# EAGLE library part 48025-1190 (library Connector_2x16)
Modular Connectors / Ethernet Connectors R/A 8/8 RJ45 MAGNETIC W/GY LED Datasheet <https://www.molex.com/pdm_docs/sd/480251190_sd.pdf>
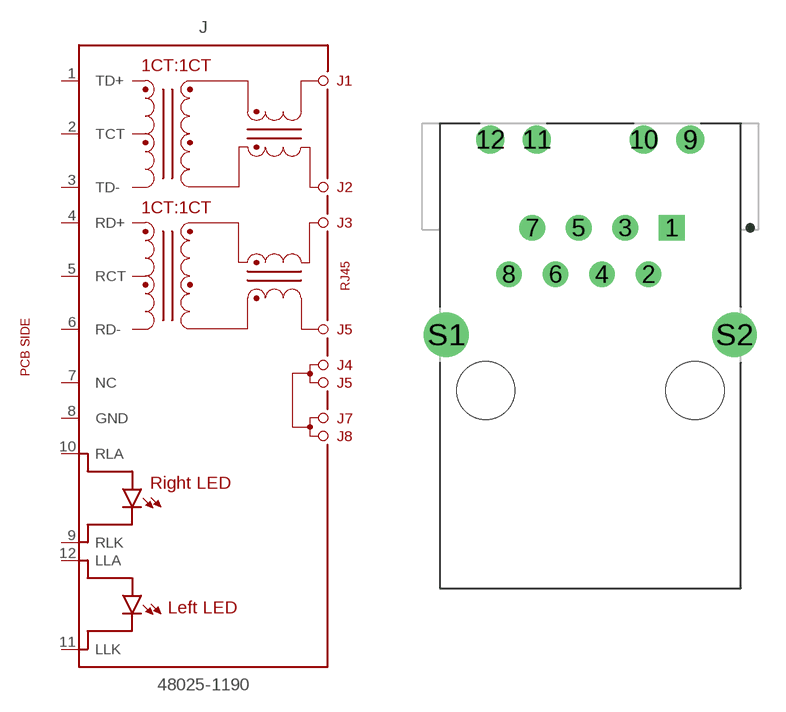
[diagram p16: symbol with the pads of 48025-1190; footprint 48025-1190]

Designator prefix J

## 48025-1190 (CATEGORY: Connector; DESCRIPTION: 1 Port RJ45 Magjack Connector Through Hole 10/100 Base-T, AutoMDIX; MANUFACTURER: Molex; MPN: 48025-1190; OPERATING_TEMP: -40°C to 70°C; PART_STATUS: Active; ROHS_COMPLIANT: RoHS Compliant; SERIES: 48025; SUB-CATEGORY: Modular Connectors - Jacks With Magnetics; TYPE: RJ45)  [48025-1190]
1  TD+  in
2  TCT  in
3  TD-  in
4  RD+  in
5  RCT  in
6  RD-  in
7  NC  nc
8  GND  pwr
9  RLK  pas
10  RLA  pas
11  LLK  pas
12  LLA  pas

## Footprint 48025-1190 (pad centres in mm)
drill 0.89 square: 1 0,0
drill 0.89: 2 -1.27,-2.54; 3 -2.54,0; 4 -3.81,-2.54; 5 -5.08,0; 6 -6.35,-2.54; 7 -7.62,0; 8 -8.89,-2.54
drill 1.02: 9 1.02,4.83; 10 -1.52,4.83; 11 -7.37,4.83; 12 -9.91,4.83
drill 1.63: S1 -12.315,-5.84; S2 3.425,-5.84
hole 3.18 at 1.27,-8.89
hole 3.18 at -10.16,-8.89